# Altium schematic symbol library 24L01 Series.SchLib: 1 symbol
Pins are listed as number, name and electrical type; pins without a type are passive.

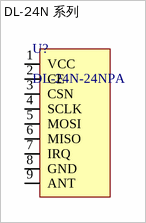
[diagram p0: symbol DL-24N 系列]

## DL-24N 系列
designator U?, comment DL-24N-24NPA
DL 24L01系列射频模组 / DL-24N(板载天线) / DL-24N-S(陶瓷天线) / DL-24N-I(IPEX) / DL-24NPA(加PA)
footprint WIRELM-SMD_DL 24L01 Series (系列兼容封装)
footprint WIRELM-SMD_DL-24N-2.4G
footprint WIRELM-SMD_DL-24N-S (DL-24N-S DL-24N-I)
footprint WIRELM-SMD_DL-24NPA-2.4G
pins: 1 VCC, 2 CE, 3 CSN, 4 SCLK, 5 MOSI, 6 MISO, 7 IRQ, 8 GND, 9 ANT